# EAGLE library part MAX8574 (library cTechnologies_integratedCircuits)
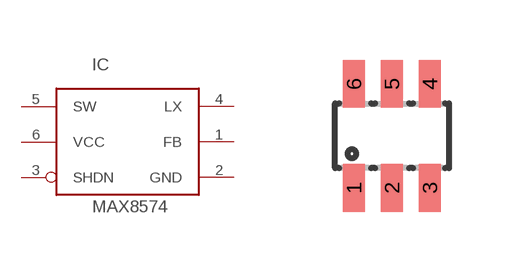
[diagram p22: symbol with the pads of SOT23-6L; footprint SOT23-6L]

Designator prefix IC

## MAX8574EUT  [SOT23-6L]
1  FB
2  GND
3  SHDN
4  LX
5  SW
6  VCC

## Footprint SOT23-6L (pad centres in mm)
Small Outline Transistor
smd 0.55 x 1.2: 1 -0.95,-1.3; 2 0,-1.3; 3 0.95,-1.3; 4 0.95,1.3; 5 0,1.3; 6 -0.95,1.3